# EAGLE library part ATTINY*5 (library snowflake)
Atmel 8-bit AVR Microcontroller with 2/4/8K Bytes In-System Programmable Flash
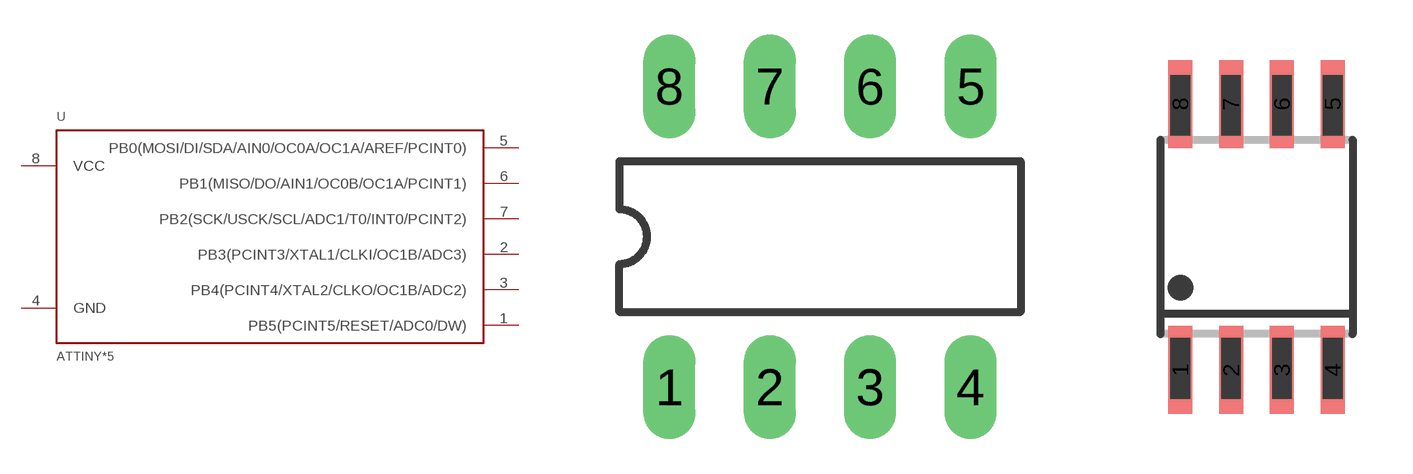
[diagram p0: symbol with the pads of DIL08; footprints DIL08, SOP8-8S2]

Designator prefix U

## ATTINY5-20PU, ATTINY25-20PU, ATTINY45-20PU, ATTINY85-20PU  [DIL08]
1  PB5(PCINT5/RESET/ADC0/DW)
2  PB3(PCINT3/XTAL1/CLKI/OC1B/ADC3)
3  PB4(PCINT4/XTAL2/CLKO/OC1B/ADC2)
4  GND
5  PB0(MOSI/DI/SDA/AIN0/OC0A/OC1A/AREF/PCINT0)
6  PB1(MISO/DO/AIN1/OC0B/OC1A/PCINT1)
7  PB2(SCK/USCK/SCL/ADC1/T0/INT0/PCINT2)
8  VCC

## ATTINY5-20SU, ATTINY25-20SU, ATTINY45-20SU, ATTINY85-20SU  [SOP8-8S2]
Pads as for DIL08

## ATTINY5-20SU-NOSILK  [SOP8-8S2-NOSILK]
Pads as for DIL08

## Footprint DIL08 (pad centres in mm)
Dual In Line Package
drill 0.813 long: 1 -3.81,-3.81; 2 -1.27,-3.81; 3 1.27,-3.81; 4 3.81,-3.81; 5 3.81,3.81; 6 1.27,3.81; 7 -1.27,3.81; 8 -3.81,3.81

## Footprint SOP8-8S2 (pad centres in mm)
Plastic Small Outline Package (EIAJ) 8S2, 8-lead, 0.208” Body, Plastic Small Outline Package (EIAJ)
smd 0.6 x 2.2: 1 -1.905,-3.33; 2 -0.635,-3.33; 3 0.635,-3.33; 4 1.905,-3.33; 5 1.905,3.33; 6 0.635,3.33; 7 -0.635,3.33; 8 -1.905,3.33

## Footprint SOP8-8S2-NOSILK (pad centres in mm)
Plastic Small Outline Package (EIAJ) 8S2, 8-lead, 0.208” Body, Plastic Small Outline Package (EIAJ)
smd 0.6 x 2.2: 1 -1.905,-3.33; 2 -0.635,-3.33; 3 0.635,-3.33; 4 1.905,-3.33; 5 1.905,3.33; 6 0.635,3.33; 7 -0.635,3.33; 8 -1.905,3.33